# Altium schematic symbol library Dash.SCHLIB: 18 symbols
Pins are listed as number, name and electrical type; pins without a type are passive.

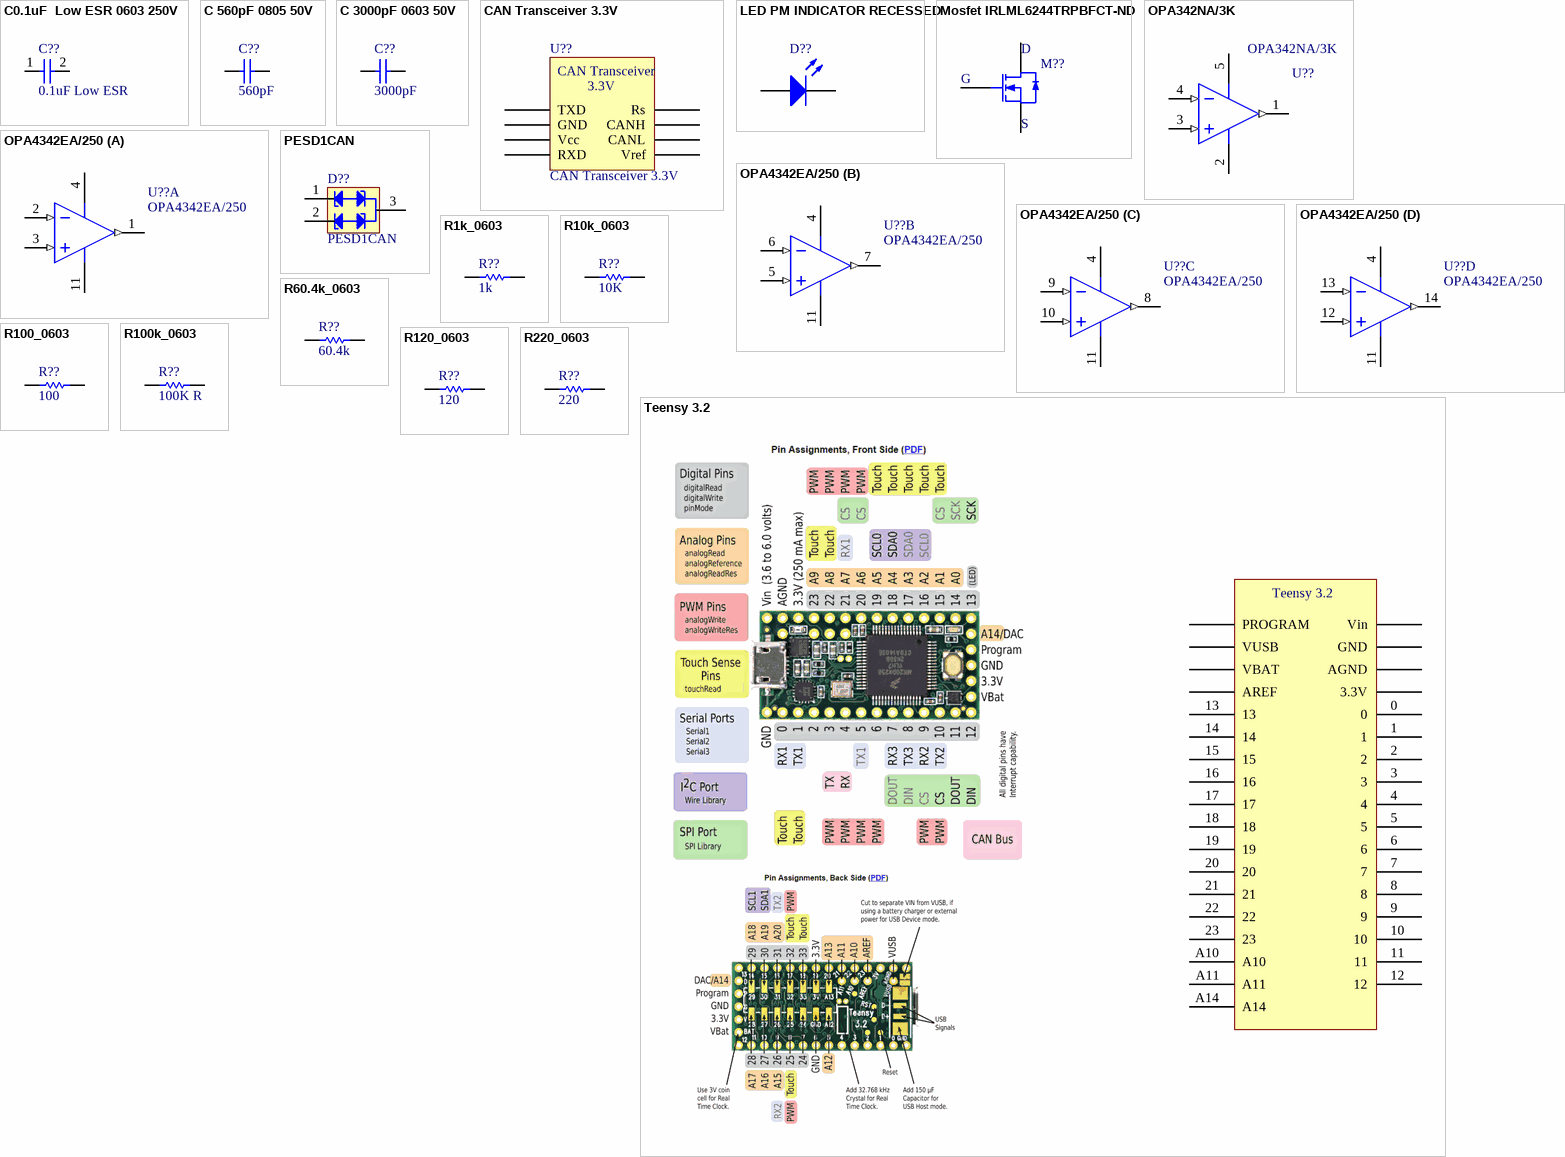
[diagram p0: symbols C0.1uF  Low ESR 0603 250V to Teensy 3.2]

## C0.1uF  Low ESR 0603 250V
designator C??, comment 0.1uF Low ESR
CAP CER 0.1UF 100V 10% X7R 0603; Manufacturer: AVX Corporation; Manufacturer Part Number: 06031U101GAT2A; Capacitance: 100pF; Tolerance: ±2%; Temperature Coefficient: C0G, NP0; Supplier 1: Digi-Key; RoHS: RoHS Compliant; Category: Capacitors; Stock 1: 16000; Pricing 1: 1=0.49, 10=0.337, 100=0.2025, 500=0.15186, 1000=0.12823 (AUD); Packaging: Cut Tape (CT); Part Status: Active; Voltage - Rated: 100V; Operating Temperature: -55°C ~ 125°C; Features: Ultra-Low ESR; Ratings: -; Applications: RF, Microwave, High Frequency; Mounting Type: Surface Mount, MLCC; Package / Case: 0603 (1608 Metric); Size / Dimension: 0.060" L x 0.030" W (1.52mm x 0.76mm); Height - Seated (Max): -; Thickness (Max): 0.036" (0.91mm); Lead Spacing: -; Lead Style: -; ComponentLink1URL: http://datasheets.avx.com/AutoU_Series.pdf; ComponentLink1Description: http://datasheets.avx.com/AutoU_Series.pdf; Supplier Part Number 1: 478-10231-1-ND
footprint J1-0603 (Footprint not found)
pins: 1, 2

## C 560pF 0805 50V
designator C??, comment Capacitance: 560pF  (hidden comment: C 560pF)
0805 Ceramic Capacitor; Manufacturer: KEMET; Manufacturer Part Number: C0805C561K5RACTU; Tolerance: ±10%; Voltage - Rated: 50V; Temperature Coefficient: X7R; Supplier 1: Digi-Key; RoHS: RoHS Compliant; Category: Capacitors; Stock 1: 51668; Pricing 1: 1=0.35, 10=0.247, 25=0.1972, 50=0.1646, 100=0.1398, 250=0.11108, 500=0.09872, 1000=0.08636 (AUD); Packaging: Cut Tape (CT); Part Status: Active; Operating Temperature: -55°C ~ 125°C; Features: Low ESL; Ratings: -; Applications: General Purpose; Failure Rate: -; Mounting Type: Surface Mount, MLCC; Package / Case: 0805 (2012 Metric); Size / Dimension: 0.079" L x 0.049" W (2.00mm x 1.25mm); Height - Seated (Max): -; Thickness (Max): 0.035" (0.88mm); Lead Spacing: -; Lead Style: -; ComponentLink1URL: http://www.kemet.com/docfinder?Partnumber=C0805C561K5RACTU; ComponentLink1Description: http://www.kemet.com/docfinder?Partnumber=C0805C561K5RACTU; Supplier Part Number 1: 399-1143-1-ND
footprint C0805 (Chip Capacitor, Body 2.0x1.3mm, IPC High Density)
pins: 1, 2

## C 3000pF 0603 50V
designator C??, comment Capacitance: 3000pF  (hidden comment: C 3000pF)
0603 Ceramic Capacitor; Manufacturer: Murata Electronics North America; Manufacturer Part Number: GRM1885C1H302JA01D; Tolerance: ±5%; Voltage - Rated: 50V; Temperature Coefficient: C0G, NP0; Supplier 1: Digi-Key; RoHS: RoHS Compliant; Category: Capacitors; Stock 1: 84271; Pricing 1: 1=0.28, 10=0.201, 100=0.0945, 1000=0.05483 (AUD); Packaging: Cut Tape (CT); Part Status: Active; Operating Temperature: -55°C ~ 125°C; Features: -; Ratings: -; Applications: General Purpose; Mounting Type: Surface Mount, MLCC; Package / Case: 0603 (1608 Metric); Size / Dimension: 0.063" L x 0.031" W (1.60mm x 0.80mm); Height - Seated (Max): -; Thickness (Max): 0.035" (0.90mm); Lead Spacing: -; Lead Style: -; ComponentLink1URL: http://www.murata.com/~/media/webrenewal/support/library/catalog/products/capacitor/mlcc/c02e.ashx; ComponentLink1Description: http://www.murata.com/~/media/webrenewal/support/library/catalog/products/capacitor/mlcc/c02e.ashx; Supplier Part Number 1: 490-6384-1-ND
footprint J1-0603 (Footprint not found)
pins: 1, 2

## CAN Transceiver 3.3V
designator U??
Manufacturer: Texas Instruments; Manufacturer Part Number: SN65HVD230DR; Number of Drivers/Receivers: 1/1; Duplex: Half; Data Rate: 1Mbps; Voltage - Supply: 3 V ~ 3.6 V; Supplier 1: Digi-Key; RoHS: RoHS Compliant; Category: Integrated Circuits (ICs); Stock 1: 41612; Pricing 1: 1=3.01, 10=2.698, 100=2.1685, 500=1.78162, 1000=1.4762 (AUD); Packaging: Cut Tape (CT); Part Status: Active; Type: Transceiver; Protocol: CAN; Operating Temperature: -40°C ~ 85°C; Mounting Type: Surface Mount; Package / Case: 8-SOIC (0.154", 3.90mm Width); Supplier Device Package: 8-SOIC; ComponentLink1URL: http://www.ti.com/lit/ds/symlink/sn65hvd230.pdf; ComponentLink1Description: http://www.ti.com/lit/ds/symlink/sn65hvd230.pdf; Supplier Part Number 1: 296-11654-1-ND
footprint 8-SOIC (Footprint not found)
pins: 1 TXD, 2 GND, 3 Vcc, 4 RXD, 5 Vref, 6 CANL, 7 CANH, 8 Rs
text: CAN Transceiver; 3.3V

## LED PM INDICATOR RECESSED
designator D??  (value not drawn)
Manufacturer: Dialight; Manufacturer Part Number: 5988010107F; Color: Red; Wavelength - Dominant: 635nm; Millicandela Rating: 60mcd; Voltage - Forward (Vf) (Typ): 2V; Current - Test: 20mA; Viewing Angle: 140°; Lens Transparency: Clear; Lens Color: Colorless; Lens Style/Size: Rectangle with Flat Top, 1.10mm x 0.80mm; Published: 8-Jun-2000; LatestRevisionDate: 08-Jul-2005; LatestRevisionNote: Mech Layer 1 removed.; PackageReference: LED-0; Publisher: Altium Limited; PackageDescription: LED; 2 Leads; Supplier 1: Digi-Key; RoHS: RoHS Compliant; Category: Optoelectronics; Stock 1: 134; Pricing 1: 1=0.6, 10=0.461, 100=0.3308, 250=0.2954, 500=0.25404, 1000=0.19613, 2500=0.17722, 5000=0.1668 (AUD); Packaging: Cut Strip; Wavelength - Peak: -; Package / Case: 0603 (1608 Metric); Supplier Device Package: *; Size / Dimension: 1.60mm L x 0.80mm W; Height (Max): 0.70mm; Mounting Type: Surface Mount; Supplier Part Number 1: 350-2029-1-ND; ComponentLink1Description: https://www.digikey.com.au/product-detail/en/apem-inc/Q8R3BXXR12E/679-2816-ND/3153057; ComponentLink1URL: https://www.digikey.com.au/product-detail/en/apem-inc/Q8R3BXXR12E/679-2816-ND/3153057
footprint J1-0603 LED (Footprint not found)
pins: 1 A, 2 K

## Mosfet IRLML6244TRPBFCT-ND
designator M??, comment Mosfet N-Channel 3.3V Switch  (value not drawn)
MOSFET N-CH 30V 5A SOT23; Manufacturer: Infineon Technologies; Manufacturer Part Number: IRLML6244TRPBF; Current - Continuous Drain (Id) @ 25°C: 6.3A (Ta); Drive Voltage (Max Rds On,  Min Rds On): 2.5V, 4.5V; Rds On (Max) @ Id, Vgs: 21 mOhm @ 6.3A, 4.5V; Vgs(th) (Max) @ Id: 1.1V @ 10µA; Vgs (Max): ±12V; Power Dissipation (Max): 1.3W (Ta); Supplier 1: Digi-Key; RoHS: RoHS Compliant; Category: Discrete Semiconductor Products; Stock 1: 29388; Pricing 1: 1=0.74, 10=0.585, 100=0.4017, 500=0.2754, 1000=0.20654 (AUD); Packaging: Cut Tape (CT); Part Status: Active; FET Type: N-Channel; Technology: MOSFET (Metal Oxide); FET Feature: -; Operating Temperature: -55°C ~ 150°C (TJ); Mounting Type: Surface Mount; Supplier Device Package: Micro3™/SOT-23; Package / Case: TO-236-3, SC-59, SOT-23-3; ComponentLink1URL: https://www.infineon.com/dgdl/irlml6244pbf.pdf?fileId=5546d462533600a4015356686fed261f; ComponentLink1Description: https://www.infineon.com/dgdl/irlml6244pbf.pdf?fileId=5546d462533600a4015356686fed261f; Supplier Part Number 1: IRLML6244TRPBFCT-ND
footprint SOT23_N (SOT23, 3-Leads, Body 2.9x1.3mm, Pitch 0.95mm, Lead Span 2.3mm - Reverse Pinning, IPC Medium Density)
pins: 1 D, 2 S, 3 G

## OPA342NA/3K
designator U??
Manufacturer: Texas Instruments; Nominal Supply Current: 250uA; Max Supply Voltage: 5.5V; Min Supply Voltage: 2.7V; Voltage Gain: 124dB; Common Mode Rejection Ratio: 76dB; Nominal Gain Bandwidth Product: 1MHz; Number of Channels: 1; Slew Rate: 1V/µs; Max I/O Voltage: 6mV; Input Bias Current: 10pA; Output Current per Channel: 15mA; Operating Supply Current: 150uA; Power Supply Rejection Ratio (PSRR): 90.46dB; Supplier 1: Digi-Key; Manufacturer Part Number: OPA342NA/3K; Stock 1: 0; Pricing 1: 1=1.17, 10=1.048, 100=0.8173, 500=0.67516, 1000=0.53303 (USD); Case/Package: SOT-23-5; Number of Pins: 5; Contact Plating: Gold; Min Operating Temperature: -40°C; Max Operating Temperature: 85°C; Package Quantity: 3000; Packaging: Tape and Reel; Input Offset Voltage (Vos): 6mV; Gain Bandwidth Product: 1MHz; Number of Circuits: 1; Bandwidth: 1MHz; Unity Gain Bandwidth Product: 1MHz; Number of Elements: 1; Radiation Hardening: No; Lead Free: Lead Free; ComponentLink1URL: https://datasheet.ciiva.com/26226/sbos106a-26226438.pdf; ComponentLink1Description: https://datasheet.ciiva.com/26226/sbos106a-26226438.pdf; ComponentLink2URL: https://datasheet.ciiva.com/14458/sbos106a-14458535.pdf; ComponentLink2Description: https://datasheet.ciiva.com/14458/sbos106a-14458535.pdf; ComponentLink3URL: https://datasheet.ciiva.com/1812/opa4342-1812232.pdf; ComponentLink3Description: https://datasheet.ciiva.com/1812/opa4342-1812232.pdf; Supplier Part Number 1: 296-41474-6-ND
footprint SOT23-5
pins: 1 OUT (out), 2 V- (power), 3 IN+ (in), 4 IN- (in), 5 V+ (power)

## OPA4342EA/250
designator U??
Manufacturer: Texas Instruments; Bandwidth: 1MHz; Max Supply Voltage: 5.5V; Min Supply Voltage: 2.7V; Voltage Gain: 124dB; Nominal Supply Current: 1mA; Common Mode Rejection Ratio: 76dB; Number of Channels: 4; Slew Rate: 1V/µs; Max I/O Voltage: 6mV; Input Bias Current: 10pA; Power Supply Rejection Ratio (PSRR): 90.46dB; Supplier 1: Digi-Key; Manufacturer Part Number: OPA4342EA/250; Stock 1: 233; Pricing 1: 1=2.83, 10=2.544, 100=2.0447 (USD); Case/Package: TSSOP; Number of Pins: 14; Min Operating Temperature: -40°C; Max Operating Temperature: 85°C; Packaging: Tape and Reel; Unity Gain Bandwidth Product: 1MHz; Package Quantity: 250; Nominal Gain Bandwidth Product: 1MHz; Number of Circuits: 4; Input Offset Voltage (Vos): 6mV; Gain Bandwidth Product: 1MHz; Number of Amplifiers: 4; Number of Elements: 4; Radiation Hardening: No; REACH SVHC: No SVHC; Lead Free: Lead Free; ComponentLink1URL: https://datasheet.ciiva.com/26226/sbos106a-26226441.pdf; ComponentLink1Description: https://datasheet.ciiva.com/26226/sbos106a-26226441.pdf; ComponentLink2URL: https://datasheet.ciiva.com/1798/opa4342-1798587.pdf; ComponentLink2Description: https://datasheet.ciiva.com/1798/opa4342-1798587.pdf; ComponentLink3URL: https://datasheet.ciiva.com/7684/53610-7684523.pdf; ComponentLink3Description: https://datasheet.ciiva.com/7684/53610-7684523.pdf; ComponentLink4URL: https://datasheet.ciiva.com/14458/sbos106a-14458539.pdf; ComponentLink4Description: https://datasheet.ciiva.com/14458/sbos106a-14458539.pdf; ComponentLink5URL: https://datasheet.ciiva.com/1798/opa4342-1798588.pdf; ComponentLink5Description: https://datasheet.ciiva.com/1798/opa4342-1798588.pdf; ComponentLink6URL: https://datasheet.ciiva.com/2974/sbos106a-2974060.pdf; ComponentLink6Description: https://datasheet.ciiva.com/2974/sbos106a-2974060.pdf; ComponentLink7URL: https://datasheet.ciiva.com/1798/opa4342-1798589.pdf; ComponentLink7Description: https://datasheet.ciiva.com/1798/opa4342-1798589.pdf; ComponentLink8URL: https://datasheet.ciiva.com/48711/001072822-da-01-en-ic-opamp-gp-r-opa4342ea-250-tssop-14-tid-48711451.pdf; ComponentLink8Description: https://datasheet.ciiva.com/48711/001072822-da-01-en-ic-opamp-gp-r-opa4342ea-250-tssop-14-tid-48711451.pdf; Supplier Part Number 1: OPA4342EADKR-ND
footprint TSSOP-14
pins on every part: 4 V+ (power), 11 V- (power)
part A pins: 1 OUT A (out), 2 IN A- (in), 3 IN A+ (in)
part B pins: 5 IN B+ (in), 6 IN B- (in), 7 OUT B (out)
part C pins: 8 OUT C (out), 9 IN C- (in), 10 IN C+ (in)
part D pins: 12 IN D+ (in), 13 IN D- (in), 14 OUT D (out)

## PESD1CAN
designator D??
Manufacturer: Nexperia USA Inc.; Manufacturer Part Number: PESD1CAN-UX; Type: Zener; Voltage - Reverse Standoff (Typ): 24V (Max); Voltage - Breakdown (Min): 25.4V; Voltage - Clamping (Max) @ Ipp: 50V; Current - Peak Pulse (10/1000µs): 3A (8/20µs); Power - Peak Pulse: 150W; Power Line Protection: No; Capacitance @ Frequency: 9.3pF @ 1MHz; Supplier 1: Digi-Key; RoHS: RoHS Compliant; Category: Circuit Protection; Stock 1: 61695; Pricing 1: 1=0.49, 10=0.402, 100=0.274, 500=0.20544, 1000=0.15407 (AUD); Packaging: Cut Tape (CT); Part Status: Active; Applications: CAN; Operating Temperature: -55°C ~ 150°C (TA); Mounting Type: Surface Mount; Package / Case: SC-70, SOT-323; Supplier Device Package: SOT-323-3; ComponentLink1URL: http://assets.nexperia.com/documents/data-sheet/PESD1CAN-U.pdf; ComponentLink1Description: http://assets.nexperia.com/documents/data-sheet/PESD1CAN-U.pdf; Supplier Part Number 1: 1727-1306-1-ND
footprint SOT323(SC-70)
pins: 1, 2, 3

## R1k_0603
designator R??, comment Resistance (Ohms): 1k  (hidden comment: 1K R)
1k Resistor 0603; Manufacturer: Yageo; Manufacturer Part Number: RC0603FR-071KL; Tolerance: ±1%; Power (Watts): 0.1W, 1/10W; Temperature Coefficient: ±100ppm/°C; Supplier 1: Digi-Key; RoHS: RoHS Compliant; Category: Resistors; Stock 1: 11536947; Pricing 1: 1=0.15, 10=0.022, 100=0.009, 1000=0.00403, 2500=0.0035 (AUD); Packaging: Cut Tape (CT); Part Status: Active; Composition: Thick Film; Features: Moisture Resistant; Operating Temperature: -55°C ~ 155°C; Package / Case: 0603 (1608 Metric); Supplier Device Package: 0603; Size / Dimension: 0.063" L x 0.031" W (1.60mm x 0.80mm); Height - Seated (Max): 0.022" (0.55mm); Failure Rate: -; ComponentLink1URL: http://www.yageo.com/documents/recent/PYu-RC_Group_51_RoHS_L_7.pdf; ComponentLink1Description: http://www.yageo.com/documents/recent/PYu-RC_Group_51_RoHS_L_7.pdf; Supplier Part Number 1: 311-1.00KHRCT-ND
footprint J1-0603 (Chip Resistor, Body 1.6x0.8mm, IPC High Density)
pins: 1, 2

## R10k_0603
designator R??, comment value 10K  (hidden comment: 10K R)
10k Resistor 0603; Manufacturer: Panasonic Electronic Components; Manufacturer Part Number: ERJ-3EKF1002V; Tolerance: ±1%; Power (Watts): 0.1W, 1/10W; Temperature Coefficient: ±100ppm/°C; Published: 8-Jun-2000; LatestRevisionDate: 17-Jul-2002; LatestRevisionNote: Re-released for DXP Platform.; PackageReference: AXIAL-0.3; Publisher: Altium Limited; PackageDescription: Axial Device, Thru-Hole; 2 Leads; 0.3 in Pin Spacing; Supplier 1: Digi-Key; RoHS: RoHS Compliant; Category: Resistors; Stock 1: 10895920; Pricing 1: 1=0.15, 50=0.0166, 100=0.0122, 250=0.00936, 500=0.00748, 1000=0.00552 (AUD); Packaging: Cut Tape (CT); Resistance (Ohms): 10k; Composition: Thick Film; Features: Automotive AEC-Q200; Operating Temperature: -55°C ~ 155°C; Package / Case: 0603 (1608 Metric); Supplier Device Package: 0603; Size / Dimension: 0.063" L x 0.031" W (1.60mm x 0.80mm); Height: 0.022" (0.55mm); Number of Terminations: 2; ComponentLink1URL: http://industrial.panasonic.com/www-cgi/jvcr13pz.cgi?E+PZ+3+AOA0002+ERJ3EKF1002V+7+WW; ComponentLink1Description: http://industrial.panasonic.com/www-cgi/jvcr13pz.cgi?E+PZ+3+AOA0002+ERJ3EKF1002V+7+WW; Supplier Part Number 1: P10.0KHCT-ND
footprint J1-0603 (Chip Resistor, Body 1.6x0.8mm, IPC High Density)
pins: 1, 2

## R60.4k_0603
designator R??, comment Resistance (Ohms): 60.4k  (hidden comment: 60.4K R)
60.4k Resistor 0603; Manufacturer: Yageo; Manufacturer Part Number: RC0603FR-0760K4L; Tolerance: ±1%; Power (Watts): 0.1W, 1/10W; Temperature Coefficient: ±100ppm/°C; Supplier 1: Digi-Key; RoHS: RoHS Compliant; Category: Resistors; Stock 1: 319012; Pricing 1: 1=0.15, 10=0.022, 100=0.009, 1000=0.00403, 2500=0.0035 (AUD); Packaging: Cut Tape (CT); Part Status: Active; Composition: Thick Film; Features: Moisture Resistant; Operating Temperature: -55°C ~ 155°C; Package / Case: 0603 (1608 Metric); Supplier Device Package: 0603; Size / Dimension: 0.063" L x 0.031" W (1.60mm x 0.80mm); Height - Seated (Max): 0.022" (0.55mm); Failure Rate: -; ComponentLink1URL: http://www.yageo.com/documents/recent/PYu-RC_Group_51_RoHS_L_7.pdf; ComponentLink1Description: http://www.yageo.com/documents/recent/PYu-RC_Group_51_RoHS_L_7.pdf; Supplier Part Number 1: 311-60.4KHRCT-ND
footprint J1-0603 (Chip Resistor, Body 1.6x0.8mm, IPC High Density)
pins: 1, 2

## R100_0603
designator R??, comment Resistance (Ohms): 100  (hidden comment: 100 R)
100 Resistor 0603; Manufacturer: Panasonic Electronic Components; Manufacturer Part Number: ERJ-3EKF1000V; Tolerance: ±1%; Power (Watts): 0.1W, 1/10W; Temperature Coefficient: ±100ppm/°C; Supplier 1: Digi-Key; RoHS: RoHS Compliant; Category: Resistors; Stock 1: 1638281; Pricing 1: 1=0.14, 10=0.026, 25=0.0184, 50=0.0142, 100=0.0105, 250=0.00796, 500=0.00638, 1000=0.0047 (AUD); Packaging: Cut Tape (CT); Part Status: Active; Composition: Thick Film; Features: Automotive AEC-Q200; Operating Temperature: -55°C ~ 155°C; Package / Case: 0603 (1608 Metric); Supplier Device Package: 0603; Size / Dimension: 0.063" L x 0.031" W (1.60mm x 0.80mm); Height - Seated (Max): 0.022" (0.55mm); Failure Rate: -; ComponentLink1URL: https://industrial.panasonic.com/cdbs/www-data/pdf/RDA0000/AOA0000C283.pdf; ComponentLink1Description: https://industrial.panasonic.com/cdbs/www-data/pdf/RDA0000/AOA0000C283.pdf; Supplier Part Number 1: P100HCT-ND
footprint J1-0603 (Chip Resistor, Body 1.6x0.8mm, IPC High Density)
pins: 1, 2

## R100k_0603
designator R??, comment 100K R
100k Resistor 0603; Manufacturer: Yageo; Manufacturer Part Number: RC0402FR-07100KL; Tolerance: ±1%; Power (Watts): 0.063W, 1/16W; Temperature Coefficient: ±100ppm/°C; Supplier 1: Digi-Key; RoHS: RoHS Compliant; Category: Resistors; Stock 1: 7264033; Pricing 1: 1=0.15, 10=0.019, 100=0.008, 1000=0.00358, 2500=0.00311, 5000=0.00257 (AUD); Packaging: Cut Tape (CT); Part Status: Active; Resistance (Ohms): 100k; Composition: Thick Film; Features: Moisture Resistant; Operating Temperature: -55°C ~ 155°C; Package / Case: 0402 (1005 Metric); Supplier Device Package: 0402; Size / Dimension: 0.039" L x 0.020" W (1.00mm x 0.50mm); Height - Seated (Max): 0.016" (0.40mm); Failure Rate: -; ComponentLink1URL: http://www.yageo.com/documents/recent/PYu-RC_Group_51_RoHS_L_7.pdf; ComponentLink1Description: http://www.yageo.com/documents/recent/PYu-RC_Group_51_RoHS_L_7.pdf; Supplier Part Number 1: 311-100KLRCT-ND
footprint J1-0603 (Chip Resistor, Body 1.6x0.8mm, IPC High Density)
pins: 1, 2

## R120_0603
designator R??, comment Resistance (Ohms): 120  (hidden comment: 120 R)
120 Resistor 0603; Manufacturer: Yageo; Manufacturer Part Number: RC0603FR-07120RL; Tolerance: ±1%; Power (Watts): 0.1W, 1/10W; Temperature Coefficient: ±100ppm/°C; Supplier 1: Digi-Key; RoHS: RoHS Compliant; Category: Resistors; Stock 1: 2195111; Pricing 1: 1=0.15, 10=0.022, 100=0.009, 1000=0.00403, 2500=0.0035 (AUD); Packaging: Cut Tape (CT); Part Status: Active; Composition: Thick Film; Features: Moisture Resistant; Operating Temperature: -55°C ~ 155°C; Package / Case: 0603 (1608 Metric); Supplier Device Package: 0603; Size / Dimension: 0.063" L x 0.031" W (1.60mm x 0.80mm); Height - Seated (Max): 0.022" (0.55mm); Failure Rate: -; ComponentLink1URL: http://www.yageo.com/documents/recent/PYu-RC_Group_51_RoHS_L_7.pdf; ComponentLink1Description: http://www.yageo.com/documents/recent/PYu-RC_Group_51_RoHS_L_7.pdf; Supplier Part Number 1: 311-120HRCT-ND
footprint J1-0603 (Chip Resistor, Body 1.6x0.8mm, IPC High Density)
pins: 1, 2

## R220_0603
designator R??, comment Resistance (Ohms): 220  (hidden comment: 220 R)
220 Resistor 0603; Manufacturer: TE Connectivity Passive Product; Tolerance: ±1%; Power (Watts): 0.1W, 1/10W; Temperature Coefficient: ±100ppm/°C; RoHS: RoHS Compliant; Category: Resistors; Packaging: Cut Tape (CT); Part Status: Active; Composition: Thick Film; Features: Moisture Resistant; Operating Temperature: -55°C ~ 155°C; Package / Case: 0603 (1608 Metric); Supplier Device Package: 0603; Size / Dimension: 0.063" L x 0.031" W (1.60mm x 0.80mm); Height - Seated (Max): 0.022" (0.55mm); Failure Rate: -; ComponentLink1Description: https://www.digikey.com.au/product-detail/en/te-connectivity-passive-product/CRGCQ0603J220R/A130087CT-ND/8577919; ComponentLink1URL: https://www.digikey.com.au/product-detail/en/te-connectivity-passive-product/CRGCQ0603J220R/A130087CT-ND/8577919; Supplier 1: Digi-Key; Supplier Part Number 1: A130087TR-ND
footprint J1-0603 (Chip Resistor, Body 1.6x0.8mm, IPC High Density)
pins: 1, 2

## Teensy 3.2
designator TEENSY ??  (value not drawn)
footprint Teensy 3.2
pins: 0, 1, 2, 3, 3.3V, 4, 5, 6, 7, 8, 9, 10, 11, 12, 13, 14, 15, 16, 17, 18, 19, 20, 21, 22, 23, A10, A11, A14, AGND, AREF, GND, PROGRAM, VBAT, VIN Vin, VUSB

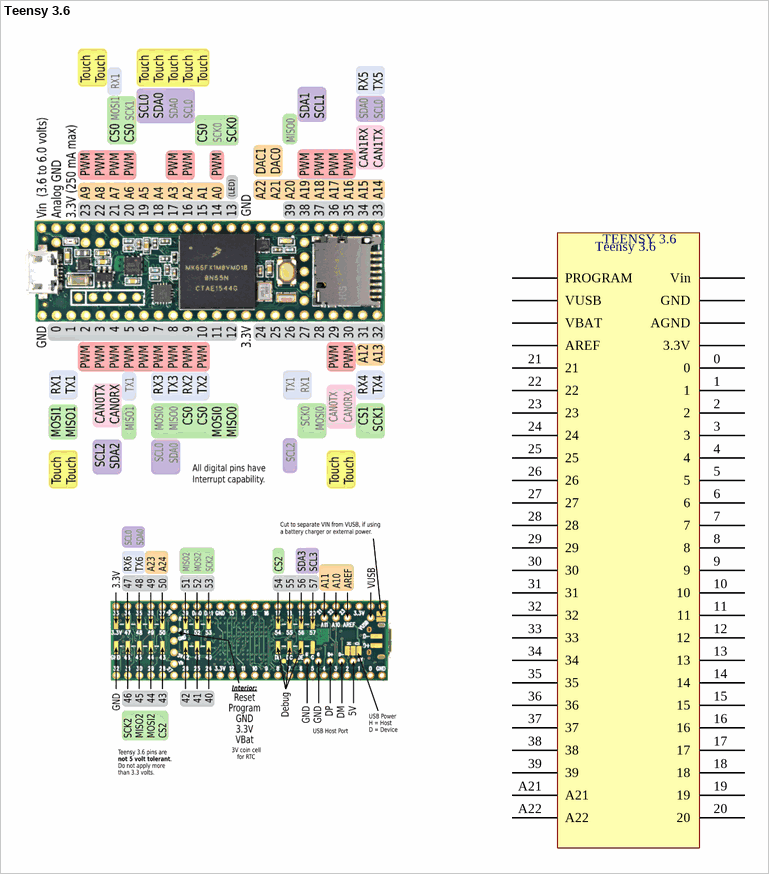
[diagram p1: symbol Teensy 3.6]

## Teensy 3.6
designator TEENSY 3.6  (value not drawn)
Manufacturer: 3M; Manufacturer Part Number: 929974-01-36-RK; Connector Type: Receptacle; Style: Board to Board; Number of Positions: 36; Number of Positions Loaded: All; Pitch - Mating: 0.100" (2.54mm); Contact Length - Post: 0.125" (3.18mm); Material Flammability Rating: UL94 V-0; Current Rating: 2A; Voltage Rating: 1500V; Supplier 1: Digi-Key; RoHS: RoHS Compliant; Category: Connectors, Interconnects; Stock 1: 7206; Pricing 1: 1=3.64, 10=3.302, 100=2.8305, 500=2.35872, 1000=2.02176, 5000=1.79263 (AUD); Packaging: Bulk; Part Status: Active; Contact Type: Forked; Number of Rows: 1; Row Spacing - Mating: -; Mounting Type: Through Hole; Termination: Solder; Fastening Type: Push-Pull; Contact Finish - Mating: Tin; Contact Finish Thickness - Mating: 100µin (2.54µm); Insulation Color: Black; Insulation Height: 0.325" (8.25mm); Operating Temperature: -40°C ~ 105°C; Contact Finish - Post: Tin; Mated Stacking Heights: -; Ingress Protection: -; Features: -; Applications: -; Insulation Material: Polycyclohexylenedimethylene Terephthalate (PCT), Glass Filled; Contact Shape: Square; Contact Material: Copper Alloy; Contact Finish Thickness - Post: 100µin (2.54µm); ComponentLink1URL: http://multimedia.3m.com/mws/media/22500O/3mtm-boardmount-skt-100-100x-100strt-sldr-tails-ts0815.pdf?&fn=ts0815.pdf; ComponentLink1Description: http://multimedia.3m.com/mws/media/22500O/3mtm-boardmount-skt-100-100x-100strt-sldr-tails-ts0815.pdf?&fn=ts0815.pdf; Supplier Part Number 1: 929974E-01-36-ND
footprint Teensy 3.6
pins: 0, 1, 2, 3, 3.3V, 4, 5, 6, 7, 8, 9, 10, 11, 12, 13, 14, 15, 16, 17, 18, 19, 20, 21, 22, 23, 24, 25, 26, 27, 28, 29, 30, 31, 32, 33, 34, 35, 36, 37, 38, 39, A21, A22, AGND, AREF, GND, PROGRAM, VBAT, VIN Vin, VUSB